# Altium integrated library VH396-03S-010_.IntLib: 1 symbol
Pins are listed as number, name and electrical type; pins without a type are passive.

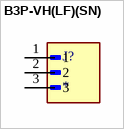
[diagram p0: symbol B3P-VH(LF)(SN)]

## B3P-VH(LF)(SN)
designator J?
Connector Header Through Hole 3 position 0.156 (3.96mm); MF: JST Sales; MP: B3P-VH(LF)(SN); SnapEDA_Link: https://www.snapeda.com/parts/B3P-VH(LF)(SN)/JST/view-part/?ref=snap; Package: None; Value: *; Check_prices: https://www.snapeda.com/parts/B3P-VH(LF)(SN)/JST/view-part/?ref=eda
footprint JST_B3P-VH(LF)(SN)
pins: 1, 2, 3